# EAGLE library part HIGHWIND_GPIO (library Highwind)
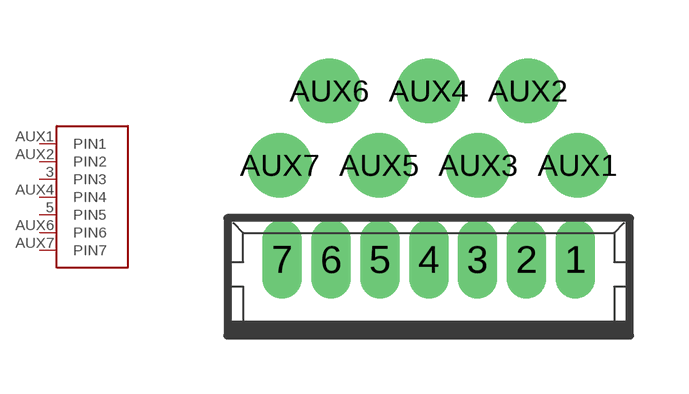
[diagram p5: symbol with the pads of 53047-07-BREAKOUT; footprint 53047-07-BREAKOUT]

Designator prefix -

## HIGHWIND_GPIO  [53047-07-BREAKOUT]
3  PIN3
5  PIN5
AUX1  PIN1
AUX2  PIN2
AUX4  PIN4
AUX6  PIN6
AUX7  PIN7

## Footprint 53047-07-BREAKOUT (pad centres in mm)
CONNECTOR wire to board 1.25 mm (.049 inch) pitch header straight Sourcxe: http://www.molex.com/pdm_docs/sd/530470210_sd.pdf
drill 0.5 pad 0.698 long: 1 3.75,0.45; 2 2.5,0.45; 3 1.25,0.45; 4 0,0.45; 5 -1.25,0.45; 6 -2.5,0.45; 7 -3.75,0.45
drill 1.1 round: AUX1 3.81,2.857; AUX2 2.54,4.763; AUX3 1.27,2.857; AUX4 0,4.763; AUX5 -1.27,2.857; AUX6 -2.54,4.763; AUX7 -3.81,2.857